# EAGLE library part HR911105A (library Connectors)
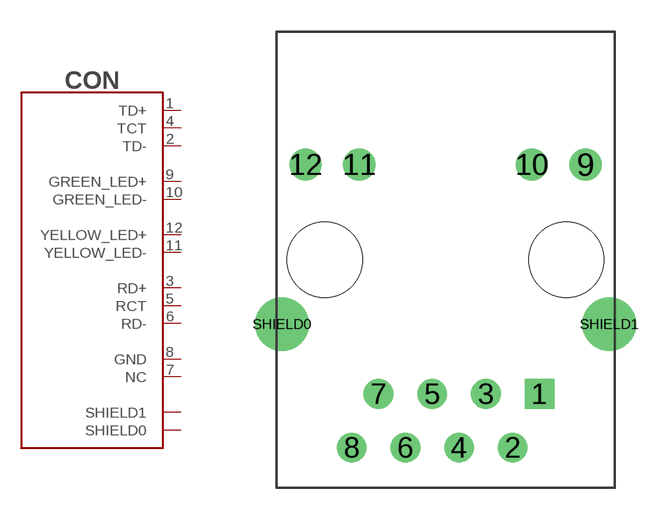
[diagram p7: symbol with the pads of HR911105A; footprint HR911105A]

Designator prefix CON

## HR911105A (COMPEL: http://www.compel.ru/infosheet/HANRUN/HR911105A/; MANF: HANRUN Electronics Corp; MANF#: HR911105A)  [HR911105A]
1  TD+
2  TD-
3  RD+
4  TCT
5  RCT
6  RD-
7  NC
8  GND
9  GREEN_LED+
10  GREEN_LED-
11  YELLOW_LED-
12  YELLOW_LED+
SHIELD0  SHIELD0
SHIELD1  SHIELD1

## Footprint HR911105A (pad centres in mm)
http://www.kosmodrom.com.ua/pdf/HR911105A.pdf 3D model <https://grabcad.com/library/hanrun-hr911105a-2>
drill 0.9 square: 1 4.445,-6.35
drill 0.9: 2 3.175,-8.89; 3 1.905,-6.35; 4 0.635,-8.89; 5 -0.635,-6.35; 6 -1.905,-8.89; 7 -3.175,-6.35; 8 -4.445,-8.89
drill 0.813 pad 1.524: 9 6.625,4.5; 10 4.085,4.5; 11 -4.085,4.5; 12 -6.625,4.5
drill 1.7: SHIELD0 -7.745,-3.05; SHIELD1 7.745,-3.05
hole 3.556 at 5.715,0
hole 3.556 at -5.715,0